# Altium schematic symbol library MANEA_TCAD_PROIECT_Schlib.SchLib: 23 symbols (part 1 of 2)
Pins are listed as number, name and electrical type; pins without a type are passive.

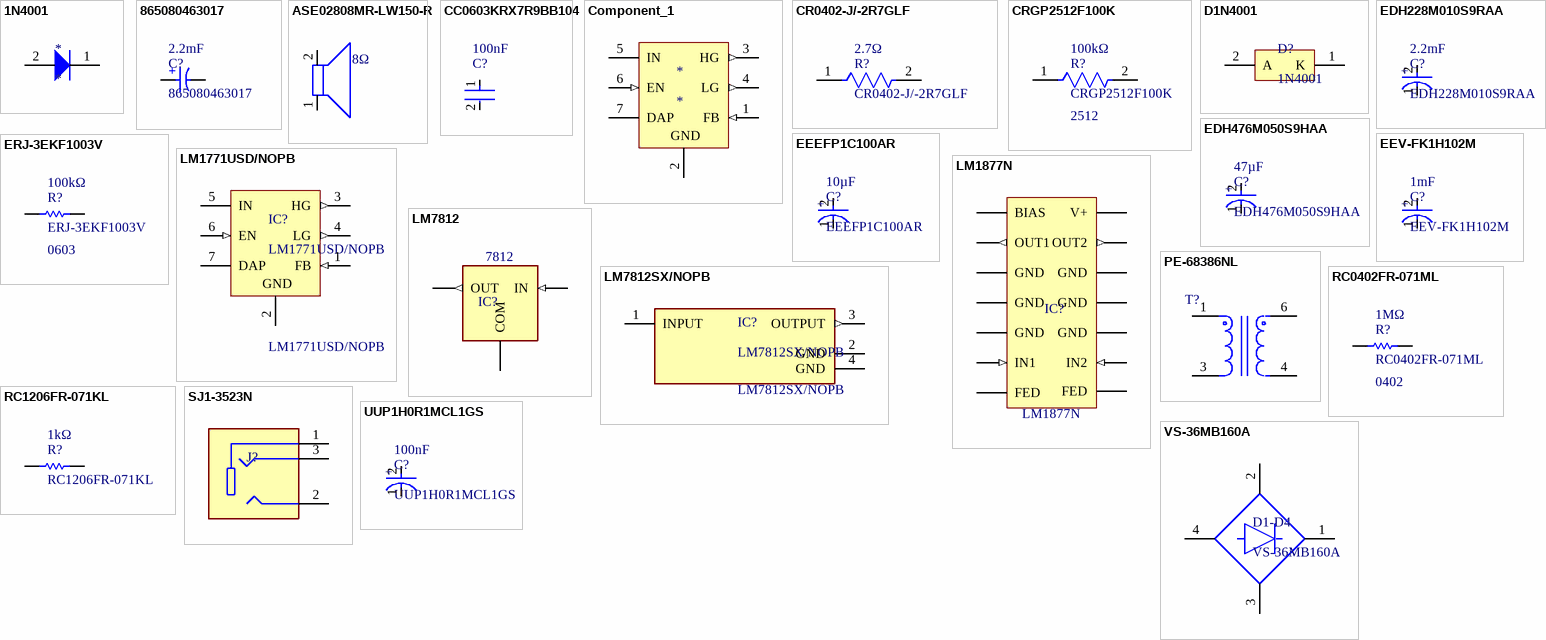
[diagram p0: symbols 1N4001 to VS-36MB160A]

## 1N4001
designator *
footprint ONSC-AXIAL_LEAD-2-59-10_P (AXIAL, 2-Leads, Diameter 2.35mm)
pins: 1 K, 2 A

## 865080463017
designator C?  value 2.2mF
SMD Aluminium Electrolytic Capacitor, WCAP-ASLI Series, 2200 F, 25 V, Radial Can - SMD, 16 mm; Manufacturer: Wurth Elektronik; ESR (Equivalent Series Resistance): 40.2412mΩ; Impedance: 52mΩ; Insulation Resistance: 45.4545kΩ; Leakage Current: 550µA; Life (Hours): 2000hours; Polarity: Polar; Ripple Current: 1.25A; Tolerance: 20%; Voltage Rating: 25V; Supplier: DigiKey; Supplier Part Number: 732-8445-1-ND; Manufacturer Part Number: 865080463017; RoHS: Compliant; Category: Aluminum Electrolytic Capacitors; Stock: 101; Pricing: 1=3.83, 50=3.268 (USD); Case/Package: Radial; Diameter: 16mm; Height: 17mm; Height - Seated (Max): 16.9926mm; Length: 17mm; Max Operating Temperature: 105°C; Min Operating Temperature: -55°C; Mounting Technology: Surface Mount; REACH SVHC: Unknown; Ripple Current (AC): 1.25A; Voltage Rating (DC): 25V; Width: 17.1mm; ComponentLink1URL: https://datasheet.octopart.com:443/865080463017-Wurth-Elektronik-datasheet-168508426.pdf?src-supplier=Wurth+Elektronik; ComponentLink1Description: https://datasheet.octopart.com:443/865080463017-Wurth-Elektronik-datasheet-168508426.pdf?src-supplier=Wurth+Elektronik; ComponentLink2URL: https://datasheet.octopart.com:443/865080463017-W%C3%BCrth-Elektronik-datasheet-37144410.pdf?src-supplier=Newark; ComponentLink2Description: https://datasheet.octopart.com:443/865080463017-W%C3%BCrth-Elektronik-datasheet-37144410.pdf?src-supplier=Newark
footprint WCAP-ASLI_D16H17 (Manea Cap - 2.2mF Aluminium Electrolytic V-Chip SMT Capacitors, 16x17mm)
pins: 1 P, 2 N
text: +

## ASE02808MR-LW150-R
designator SPK?  Impedance: 8Ω  (hidden comment: ASE02808MR-LW150-R)
Speakers & Transducers 28mm SPEAKER w/ENCL 2 W 8 OHM 82 DB; Manufacturer: PUI Audio; Cable Length: 150mm; Max Power Dissipation: 3W; Power Rating: 2W; Self Resonant Frequency: 22Hz; Shape: Rectangular, Square; Supplier: DigiKey; Supplier Part Number: 668-1431-ND; RoHS: Compliant; Category: Speakers; Stock: 2641; Pricing: 1=7.56, 10=5.802, 42=4.95976, 84=4.60714, 126=4.41524, 252=4.10972, 504=3.83006, 1008=3.65106 (USD); Height: 14.8mm; Length: 31mm; Mounting Technology: Flanges; REACH SVHC: Yes; Termination: Wire Leads; Width: 28mm; ComponentLink1URL: https://datasheet.octopart.com:443/ASE02808MR-LW150-R-PUI-Audio-datasheet-128089182.pdf?src-supplier=JRH+Electronics; ComponentLink1Description: https://datasheet.octopart.com:443/ASE02808MR-LW150-R-PUI-Audio-datasheet-128089182.pdf?src-supplier=JRH+Electronics; ComponentLink2URL: https://datasheet.octopart.com:443/ASE02808MR-LW150-R-PUI-Audio-datasheet-128089185.pdf?src-supplier=Sager+Electronics; ComponentLink2Description: https://datasheet.octopart.com:443/ASE02808MR-LW150-R-PUI-Audio-datasheet-128089185.pdf?src-supplier=Sager+Electronics; Manufacturer Part Number: ASE02808MR-LW150-R
footprint Manea_Speaker (36 mm, Round Frame, 2.0 W, 8 Ohm, Neodymium Magnet, Paper Cone, Speaker [CLS0361 - Same Sky])
pins: 1, 2

## CC0603KRX7R9BB104
designator C?, comment value 100nF  (hidden comment: Cap 100nF)
Multilayer Ceramic Capacitor, CC Series, 0.1 - F, - 10%, X7R, 50 V, 0603 [1608 Metric]; Manufacturer: Yageo Group; Manufacturer Part Number: CC0603KRX7R9BB104; Voltage: 50V; Supplier: Farnell; Supplier Part Number: CC0603KRX7R9BB104; RoHS: Compliant; Category: Ceramic Capacitors; Stock: 1047442; Pricing: 10=10, 100=0.06, 500=0.06, 1000=0.05, 2000=0.05, 4000=0.04 (EUR); Case/Package: 0603; Case Code (Imperial): 0603; Case Code (Metric): 1608; China RoHS: Compliant; Country of Origin: Mainland China, Taiwan; Depth: 800µm; Dielectric: X7R; Dielectric Material: Ceramic; Export Control Classification Number (ECCN) Code: EAR99; Halogen Free: Halogen Free; Height: 800µm; Harmonized Tariff Schedule (HTS) Code: 8532.24.00.20; Introduction Date: 2005-08-18; Lead Free: Lead Free; Length: 1.6mm; Lifecycle Status: Production; Material: Ceramic; Max Operating Temperature: 125°C; Min Operating Temperature: -55°C; Mounting Technology: Surface Mount; Pins: 2; Number of Terminals: 2; Radiation Hardening: No; REACH SVHC: Yes; Schedule B: 8532240020, 8532240020|8532240020, 8532240020|8532240020|8532240020, 8532240020|8532240020|8532240020|8532240020; Termination: SMD/SMT; Thickness: 889µm; Tolerance: 10%; Voltage Rating: 50V; Voltage Rating (DC): 50V; Width: 800µm; ComponentLink1URL: https://datasheet.octopart.com:443/CC0603KRX7R9BB104-Yageo-datasheet-177165144.pdf?src-supplier=IHS; ComponentLink1Description: https://datasheet.octopart.com:443/CC0603KRX7R9BB104-Yageo-datasheet-177165144.pdf?src-supplier=IHS; ComponentLink2URL: https://datasheet.octopart.com:443/CC0603KRX7R9BB104-Yageo-datasheet-82288757.pdf?src-supplier=Upverter; ComponentLink2Description: https://datasheet.octopart.com:443/CC0603KRX7R9BB104-Yageo-datasheet-82288757.pdf?src-supplier=Upverter; ComponentLink3URL: https://datasheet.octopart.com:443/CC0603KRX7R9BB104-Yageo-datasheet-68298032.pdf?src-supplier=Upverter; ComponentLink3Description: https://datasheet.octopart.com:443/CC0603KRX7R9BB104-Yageo-datasheet-68298032.pdf?src-supplier=Upverter; ComponentLink4URL: https://datasheet.octopart.com:443/CC0603KRX7R9BB104-Yageo-Group-datasheet-189192896.pdf?src-supplier=Future+Electronics; ComponentLink4Description: https://datasheet.octopart.com:443/CC0603KRX7R9BB104-Yageo-Group-datasheet-189192896.pdf?src-supplier=Future+Electronics; ComponentLink5URL: https://datasheet.octopart.com:443/CC0603KRX7R9BB104-Yageo-datasheet-12526321.pdf?src-supplier=Future+Electronics; ComponentLink5Description: https://datasheet.octopart.com:443/CC0603KRX7R9BB104-Yageo-datasheet-12526321.pdf?src-supplier=Future+Electronics; ComponentLink6URL: https://datasheet.octopart.com:443/CC0603KRX7R9BB104-Yageo-datasheet-166511530.pdf?src-supplier=Future+Electronics; ComponentLink6Description: https://datasheet.octopart.com:443/CC0603KRX7R9BB104-Yageo-datasheet-166511530.pdf?src-supplier=Future+Electronics; ComponentLink7URL: https://datasheet.octopart.com:443/CC0603KRX7R9BB104-Yageo-datasheet-137700082.pdf?src-supplier=Future+Electronics; ComponentLink7Description: https://datasheet.octopart.com:443/CC0603KRX7R9BB104-Yageo-datasheet-137700082.pdf?src-supplier=Future+Electronics; ComponentLink8URL: https://datasheet.octopart.com:443/CC0603KRX7R9BB104-Yageo-datasheet-137700084.pdf?src-supplier=Future+Electronics; ComponentLink8Description: https://datasheet.octopart.com:443/CC0603KRX7R9BB104-Yageo-datasheet-137700084.pdf?src-supplier=Future+Electronics; ComponentLink9URL: https://datasheet.octopart.com:443/CC0603KRX7R9BB104-Yageo-datasheet-27626582.pdf?src-supplier=Future+Electronics; ComponentLink9Description: https://datasheet.octopart.com:443/CC0603KRX7R9BB104-Yageo-datasheet-27626582.pdf?src-supplier=Future+Electronics; ComponentLink10URL: https://datasheet.octopart.com:443/CC0603KRX7R9BB104-Yageo-datasheet-15895757.pdf?src-supplier=Future+Electronics; ComponentLink10Description: https://datasheet.octopart.com:443/CC0603KRX7R9BB104-Yageo-datasheet-15895757.pdf?src-supplier=Future+Electronics; ComponentLink11URL: https://datasheet.octopart.com:443/CC0603KRX7R9BB104-Yageo-datasheet-8324192.pdf?src-supplier=Future+Electronics; ComponentLink11Description: https://datasheet.octopart.com:443/CC0603KRX7R9BB104-Yageo-datasheet-8324192.pdf?src-supplier=Future+Electronics; ComponentLink12URL: https://datasheet.octopart.com/CC0603KRX7R9BB104-Yageo-datasheet-10883670.pdf; ComponentLink12Description: https://datasheet.octopart.com/CC0603KRX7R9BB104-Yageo-datasheet-10883670.pdf; ComponentLink13URL: https://datasheet.octopart.com:443/CC0603KRX7R9BB104-Yageo-datasheet-181968726.pdf?src-supplier=Newark; ComponentLink13Description: https://datasheet.octopart.com:443/CC0603KRX7R9BB104-Yageo-datasheet-181968726.pdf?src-supplier=Newark; ComponentLink14URL: https://datasheet.octopart.com:443/CC0603KRX7R9BB104-Yageo-datasheet-499490.pdf?src-supplier=Newark; ComponentLink14Description: https://datasheet.octopart.com:443/CC0603KRX7R9BB104-Yageo-datasheet-499490.pdf?src-supplier=Newark; ComponentLink15URL: https://datasheet.octopart.com:443/CC0603KRX7R9BB104-Yageo-datasheet-62336348.pdf?src-supplier=Newark; ComponentLink15Description: https://datasheet.octopart.com:443/CC0603KRX7R9BB104-Yageo-datasheet-62336348.pdf?src-supplier=Newark; ComponentLink16URL: https://datasheet.octopart.com:443/CC0603KRX7R9BB104-Yageo-datasheet-147453679.pdf?src-supplier=Newark; ComponentLink16Description: https://datasheet.octopart.com:443/CC0603KRX7R9BB104-Yageo-datasheet-147453679.pdf?src-supplier=Newark; ComponentLink17URL: https://datasheet.octopart.com:443/CC0603KRX7R9BB104-Yageo-datasheet-151948686.pdf?src-supplier=Farnell; ComponentLink17Description: https://datasheet.octopart.com:443/CC0603KRX7R9BB104-Yageo-datasheet-151948686.pdf?src-supplier=Farnell; ComponentLink18URL: https://datasheet.octopart.com:443/CC0603KRX7R9BB104-Yageo-datasheet-500777.pdf?src-supplier=Farnell; ComponentLink18Description: https://datasheet.octopart.com:443/CC0603KRX7R9BB104-Yageo-datasheet-500777.pdf?src-supplier=Farnell; ComponentLink19URL: https://datasheet.octopart.com:443/CC0603KRX7R9BB104-Yageo-datasheet-178019014.pdf?src-supplier=Burklin+Elektronik; ComponentLink19Description: https://datasheet.octopart.com:443/CC0603KRX7R9BB104-Yageo-datasheet-178019014.pdf?src-supplier=Burklin+Elektronik; ComponentLink20URL: https://datasheet.octopart.com:443/CC0603KRX7R9BB104-Yageo-Group-datasheet-165992755.pdf?src-supplier=ODG+(Origin+Data+Global); ComponentLink20Description: https://datasheet.octopart.com:443/CC0603KRX7R9BB104-Yageo-Group-datasheet-165992755.pdf?src-supplier=ODG+(Origin+Data+Global); ComponentLink21URL: https://datasheet.octopart.com:443/CC0603KRX7R9BB104-Yageo-datasheet-140260305.pdf?src-supplier=SOS+electronic; ComponentLink21Description: https://datasheet.octopart.com:443/CC0603KRX7R9BB104-Yageo-datasheet-140260305.pdf?src-supplier=SOS+electronic; ComponentLink22URL: https://datasheet.octopart.com:443/CC0603KRX7R9BB104-Yageo-datasheet-120101875.pdf?src-supplier=Megastar; ComponentLink22Description: https://datasheet.octopart.com:443/CC0603KRX7R9BB104-Yageo-datasheet-120101875.pdf?src-supplier=Megastar; ComponentLink23URL: https://datasheet.octopart.com:443/CC0603KRX7R9BB104-Yageo-datasheet-8701427.pdf?src-supplier=element14; ComponentLink23Description: https://datasheet.octopart.com:443/CC0603KRX7R9BB104-Yageo-datasheet-8701427.pdf?src-supplier=element14; ComponentLink24URL: https://datasheet.octopart.com:443/CC0603KRX7R9BB104-Yageo-datasheet-5301394.pdf?src-supplier=element14; ComponentLink24Description: https://datasheet.octopart.com:443/CC0603KRX7R9BB104-Yageo-datasheet-5301394.pdf?src-supplier=element14; ComponentLink25URL: https://datasheet.octopart.com:443/CC0603KRX7R9BB104-Yageo-datasheet-17600895.pdf?src-supplier=TME; ComponentLink25Description: https://datasheet.octopart.com:443/CC0603KRX7R9BB104-Yageo-datasheet-17600895.pdf?src-supplier=TME; ComponentLink26URL: http://sigma.octopart.com:80/15889575/rohs_statement/Yageo-CC0603KRX7R9BB104.pdf?src-supplier=Compliance+Statements; ComponentLink26Description: http://sigma.octopart.com:80/15889575/rohs_statement/Yageo-CC0603KRX7R9BB104.pdf?src-supplier=Compliance+Statements; ComponentLink27URL: http://sigma.octopart.com:80/conflict_mineral_statement/Yageo-company-3.pdf?src-supplier=Compliance+Statements; ComponentLink27Description: http://sigma.octopart.com:80/conflict_mineral_statement/Yageo-company-3.pdf?src-supplier=Compliance+Statements
footprint FP-CC0603-DA-MFG (Manea - Cap 100nF Ceramic)
pins: 1, 2

## Component_1
designator *
pins: 1 FB (in), 2 GND (power), 3 HG (out), 4 LG (out), 5 IN (power), 6 EN (in), 7 DAP (power)

## CR0402-J/-2R7GLF
designator R?  value 2.7Ω
CR0402 FIXED RESISTOR 0402 (1005Metric) Chip Resistor ±5% -250/ +500ppm/C 2.7Ohm 0.063W 1/16W; Manufacturer: Bourns; Max Power Dissipation: 63mW; Power Rating: 62.5mW; Temperature Coefficient: 500ppm/°C; Voltage Rating: 50V; Supplier: DigiKey; Supplier Part Number: CR0402-J/-2R7GLFDKR-ND; Manufacturer Part Number: CR0402-J/-2R7GLF; RoHS: Compliant; Category: Chip SMD Resistors; Pricing: 1=0.1, 10=0.02, 25=0.0144, 50=0.0114, 100=0.0091, 250=0.00696, 500=0.00574, 1000=0.0048, 5000=0.00333 (USD); Case/Package: 0402; Case Code (Imperial): 0402; Case Code (Metric): 1005; China RoHS: Non-Compliant; Composition: Thick Film; Contact Plating: Tin; Country of Origin: Taiwan; Depth: 500µm; Export Control Classification Number (ECCN) Code: EAR99; Height: 320µm; Harmonized Tariff Schedule (HTS) Code: 8533.21.00.30; Introduction Date: 2003-04-07; Length: 1mm; Lifecycle Status: Production; Max Operating Temperature: 155°C; Military Standard: Not; Min Operating Temperature: -55°C; Mounting Technology: Surface Mount; Number of Terminals: 2; Power Dissipation: 63mW; Radiation Hardening: No; REACH SVHC: Yes; Termination: SMD/SMT; Tolerance: 5%; Width: 500µm; Working Voltage: 50V; ComponentLink1URL: https://datasheet.octopart.com:443/CR0402-J--2R7GLF-Bourns-datasheet-159578630.pdf?src-supplier=IHS; ComponentLink1Description: https://datasheet.octopart.com:443/CR0402-J--2R7GLF-Bourns-datasheet-159578630.pdf?src-supplier=IHS; ComponentLink2URL: https://datasheet.octopart.com:443/CR0402-J--2R7GLF-Bourns-datasheet-181955239.pdf?src-supplier=IHS; ComponentLink2Description: https://datasheet.octopart.com:443/CR0402-J--2R7GLF-Bourns-datasheet-181955239.pdf?src-supplier=IHS; ComponentLink3URL: https://datasheet.octopart.com:443/CR0402-J--2R7GLF-Bourns-datasheet-68301632.pdf?src-supplier=Electro+Sonic; ComponentLink3Description: https://datasheet.octopart.com:443/CR0402-J--2R7GLF-Bourns-datasheet-68301632.pdf?src-supplier=Electro+Sonic; ComponentLink4URL: https://datasheet.octopart.com/CR0402-J/-2R7GLF-Bourns-datasheet-8723995.pdf; ComponentLink4Description: https://datasheet.octopart.com/CR0402-J/-2R7GLF-Bourns-datasheet-8723995.pdf; ComponentLink5URL: http://sigma.octopart.com:80/conflict_mineral_statement/Bourns-company-36.pdf?src-supplier=Compliance+Statements; ComponentLink5Description: http://sigma.octopart.com:80/conflict_mineral_statement/Bourns-company-36.pdf?src-supplier=Compliance+Statements
footprint FP-CR0402-MFG (Manea Resis - 2.7Ohm (mid - short))
footprint FP-CR0402-IPC_C (Manea Resis - 2.7Ohm (short))
footprint FP-CR0402-IPC_B (Manea Resis - 2.7Ohm (mid))
footprint FP-CR0402-IPC_A (Manea Resis - 2.7Ohm (long))
pins: 1, 2

## CRGP2512F100K
designator R?  value 100kΩ  Case/Package: 2512
Res Thick Film 2512 100K Ohm 1% 2W ±100ppm/°C Pad SMD T/R Automotive AEC-Q200; Manufacturer: TE Connectivity; Manufacturer Lifecycle Status: ACTIVE; Operating Supply Voltage: 500V; Supplier: Avnet; Supplier Part Number: 4-2176331-9; Manufacturer Part Number: CRGP2512F100K; RoHS: Compliant; Category: Chip SMD Resistors; Stock: 4000; Pricing: 4000=0.11838, 80000=0.11064, 160000=0.10311, 400000=0.09689, 800000=0.09638 (USD); Ambient Temperature Range High: 70°C; China RoHS: Compliant; Composition: Thick Film; Export Control Classification Number (ECCN) Code: EAR99; Height: 550µm; Harmonized Tariff Schedule (HTS) Code: 8533.21.00.30; Introduction Date: 2018-03-13; Length: 6.35mm; Lifecycle Status: Production; Max Operating Temperature: 155°C; Min Operating Temperature: -55°C; Mounting Technology: Surface Mount; Number of Terminals: 2; Packaging: Cut Tape; Power Dissipation: 2W; Power Rating: 2W; REACH SVHC: Yes; Temperature Coefficient: 100ppm/°C; Tolerance: 1%; Voltage Rating: 500V; Voltage Rating (DC): 500V; Width: 3.2mm; Working Voltage: 500V; ComponentLink1URL: https://datasheet.octopart.com:443/CRGP2512F100K-TE-Connectivity-datasheet-156004650.pdf?src-supplier=Future+Electronics; ComponentLink1Description: https://datasheet.octopart.com:443/CRGP2512F100K-TE-Connectivity-datasheet-156004650.pdf?src-supplier=Future+Electronics; ComponentLink2URL: https://datasheet.octopart.com:443/CRGP2512F100K-TE-Connectivity-datasheet-114718804.pdf?src-supplier=JRH+Electronics; ComponentLink2Description: https://datasheet.octopart.com:443/CRGP2512F100K-TE-Connectivity-datasheet-114718804.pdf?src-supplier=JRH+Electronics; ComponentLink3URL: https://datasheet.octopart.com:443/CRGP2512F100K-TE-Connectivity-datasheet-138898427.pdf?src-supplier=Upverter; ComponentLink3Description: https://datasheet.octopart.com:443/CRGP2512F100K-TE-Connectivity-datasheet-138898427.pdf?src-supplier=Upverter; ComponentLink4URL: https://sigma.octopart.com:443/114728873/technical_drawing/TE-Connectivity-CRGP2512F100K.pdf?src-supplier=TE+Connectivity; ComponentLink4Description: https://sigma.octopart.com:443/114728873/technical_drawing/TE-Connectivity-CRGP2512F100K.pdf?src-supplier=TE+Connectivity; ComponentLink5URL: https://datasheet.octopart.com:443/4-2176331-9-TE-Connectivity---AMP-datasheet-184935180.pdf?src-supplier=Master+Electronics; ComponentLink5Description: https://datasheet.octopart.com:443/4-2176331-9-TE-Connectivity---AMP-datasheet-184935180.pdf?src-supplier=Master+Electronics; ComponentLink6URL: https://datasheet.octopart.com:443/4-2176331-9-TE-Connectivity-datasheet-176339768.pdf?src-supplier=Sager+Electronics; ComponentLink6Description: https://datasheet.octopart.com:443/4-2176331-9-TE-Connectivity-datasheet-176339768.pdf?src-supplier=Sager+Electronics
footprint FP-CRGP2512-IPC_A (Manea Resis - 100kΩ (long))
footprint FP-CRGP2512-IPC_B (Manea Resis - 100kΩ (mid))
footprint FP-CRGP2512-IPC_C (Manea Resis - 100kΩ (short))
pins: 1, 2

## D1N4001
designator D?, comment 1N4001
Rectifier Diode Switching 50V 1A 2-Pin DO-41 Box / DIODE GEN PURP 50V 1A DO41
footprint ONSC-AXIAL_LEAD-2-59-10_P (AXIAL, 2-Leads, Diameter 2.35mm)
pins: 1 K, 2 A

## EDH228M010S9RAA
designator C?  value 2.2mF
Aluminum Electrolytic Capacitor, Polarized, Aluminum (wet), 10V, 20% +Tol, 20% -Tol, 2200uF, Surface Mount, 5050; Manufacturer: Yageo Group; Leakage Current: 220µA; Ripple Current: 680mA; Supplier: DigiKey; Supplier Part Number: EDH228M010S9RAA-ND; Manufacturer Part Number: EDH228M010S9RAA; RoHS: Compliant; Category: Aluminum Electrolytic Capacitors; Pricing: 3000=0.87027 (USD); Diameter: 12.5mm; Height: 13.5mm; Length: 12.8mm; Lifecycle Status: Production; Max Operating Temperature: 105°C; Min Operating Temperature: -40°C; Mounting Technology: Surface Mount; Number of Terminals: 2; REACH SVHC: Yes; Voltage Rating (DC): 10V; Width: 12.8mm; ComponentLink1URL: https://datasheet.octopart.com:443/EDH228M010S9RAA-KEMET-datasheet-182055805.pdf?src-supplier=IHS; ComponentLink1Description: https://datasheet.octopart.com:443/EDH228M010S9RAA-KEMET-datasheet-182055805.pdf?src-supplier=IHS; ComponentLink2URL: https://datasheet.octopart.com:443/EDH228M010S9RAA-KEMET-datasheet-188904359.pdf?src-supplier=TME; ComponentLink2Description: https://datasheet.octopart.com:443/EDH228M010S9RAA-KEMET-datasheet-188904359.pdf?src-supplier=TME
footprint FP-EDH476M050S9HAA-IPC_A (Manea Cap - 47μF (small))
footprint FP-EDH476M050S9HAA-IPC_B (Manea Cap - 47μF (medium))
footprint FP-EDH476M050S9HAA-IPC_C (Manea Cap - 47μF (large))
pins: 1 C, 2 A
text: +

## EDH476M050S9HAA
designator C?  value 47µF
Radial Can - SMD ALUMINUM ELECTROLYTIC CAPACITOR EDH 50V 47muF ±20% 0.248Dia 6.30mm; Manufacturer: Yageo Group; Dissipation Factor: 12%; Leakage Current: 23.5µA; Life (Hours): 2000hours; Ripple Current: 110mA; Supplier: DigiKey; Supplier Part Number: 399-EDH476M050S9HAACT-ND; Manufacturer Part Number: EDH476M050S9HAA; RoHS: Compliant; Category: Aluminum Electrolytic Capacitors; Pricing: 1=0.48, 10=0.298, 50=0.2202, 100=0.1954, 500=0.1527 (USD); Diameter: 6.3mm; Export Control Classification Number (ECCN) Code: EAR99; Height: 7.7mm; Harmonized Tariff Schedule (HTS) Code: 8532.22.00.20; Introduction Date: 2016-12-02; Length: 6.6mm; Lifecycle Status: Production; Max Operating Temperature: 105°C; Min Operating Temperature: -40°C; Mounting Technology: Surface Mount; Number of Terminals: 2; REACH SVHC: Yes; Tolerance: 20%; Voltage Rating: 50V; Voltage Rating (DC): 50V; Width: 6.6mm; ComponentLink1URL: https://datasheet.octopart.com:443/EDH476M050S9HAA-KEMET-datasheet-182055805.pdf?src-supplier=IHS; ComponentLink1Description: https://datasheet.octopart.com:443/EDH476M050S9HAA-KEMET-datasheet-182055805.pdf?src-supplier=IHS; ComponentLink2URL: https://datasheet.octopart.com:443/EDH476M050S9HAA-KEMET-datasheet-164311313.pdf?src-supplier=Upverter; ComponentLink2Description: https://datasheet.octopart.com:443/EDH476M050S9HAA-KEMET-datasheet-164311313.pdf?src-supplier=Upverter; ComponentLink3URL: https://datasheet.octopart.com:443/EDH476M050S9HAA-KEMET-datasheet-182000736.pdf?src-supplier=Farnell; ComponentLink3Description: https://datasheet.octopart.com:443/EDH476M050S9HAA-KEMET-datasheet-182000736.pdf?src-supplier=Farnell; ComponentLink4URL: https://datasheet.octopart.com:443/EDH476M050S9HAA-KEMET-datasheet-182000735.pdf?src-supplier=Farnell; ComponentLink4Description: https://datasheet.octopart.com:443/EDH476M050S9HAA-KEMET-datasheet-182000735.pdf?src-supplier=Farnell; ComponentLink5URL: https://datasheet.octopart.com:443/EDH476M050S9HAA-KEMET-datasheet-176335142.pdf?src-supplier=Newark; ComponentLink5Description: https://datasheet.octopart.com:443/EDH476M050S9HAA-KEMET-datasheet-176335142.pdf?src-supplier=Newark; ComponentLink6URL: https://datasheet.octopart.com:443/EDH476M050S9HAA-KEMET-datasheet-188904359.pdf?src-supplier=TME; ComponentLink6Description: https://datasheet.octopart.com:443/EDH476M050S9HAA-KEMET-datasheet-188904359.pdf?src-supplier=TME; Stock: 14614
footprint FP-EDH476M050S9HAA-IPC_A (Manea Cap - 47uF (small))
footprint FP-EDH476M050S9HAA-IPC_B (Manea Cap - 47uF (medium))
footprint FP-EDH476M050S9HAA-IPC_C (Manea Cap - 47uF (large))
pins: 1 C, 2 A
text: +

## EEEFP1C100AR
designator C?  value 10µF
Capacitor Aluminum 10uF 16VDC 20% 4 X 5.8mm SMD 0.85 Ohm 160mA 2000 hr Embossed T/R; Manufacturer: Panasonic; Manufacturer Lifecycle Status: ACTIVE; Part Series: FP (High temp. reflow); Dissipation Factor: 16%; ESR (Equivalent Series Resistance): 850mΩ; Leakage Current: 3µA; Life (Hours): 2000hours; Material: Aluminium; Voltage: 16V; Supplier: Farnell; Supplier Part Number: EEEFP1C100AR; Manufacturer Part Number: EEEFP1C100AR; RoHS: Compliant; Category: Aluminum Electrolytic Capacitors; Stock: 40000; Pricing: 2000=2000 (EUR); Case/Package: Radial; Contact Plating: Tin; Country of Origin: Japan, Malaysia; Diameter: 4mm; Export Control Classification Number (ECCN) Code: EAR99; Features: High Temperature; Height: 5.8mm; Height - Seated (Max): 5.7912mm; Harmonized Tariff Schedule (HTS) Code: 8532.22.00.20; Introduction Date: 2008-03-04; Lead Free: Lead Free; Lead Pitch: 1mm; Length: 5.8mm; Lifecycle Status: Production; Max Operating Temperature: 105°C; Min Operating Temperature: -55°C; Mounting Technology: Surface Mount; Pins: 2; Number of Terminals: 2; Packaging: Cut Tape; Radiation Hardening: No; REACH SVHC: Yes; Ripple Current: 160mA; Ripple Current (AC): 160mA; Schedule B: 8532220020, 8532220020|8532220020, 8532220020|8532220020|8532220020, 8532220020|8532220020|8532220020|8532220020; Termination: SMD/SMT; Tolerance: 20%; Voltage Rating: 16V; Voltage Rating (DC): 16V; Width: 4.3mm; ComponentLink1URL: https://datasheet.octopart.com:443/EEEFP1C100AR-Panasonic-datasheet-182100943.pdf?src-supplier=IHS; ComponentLink1Description: https://datasheet.octopart.com:443/EEEFP1C100AR-Panasonic-datasheet-182100943.pdf?src-supplier=IHS; ComponentLink2URL: https://datasheet.octopart.com:443/EEEFP1C100AR-Panasonic-datasheet-66433925.pdf?src-supplier=Future+Electronics; ComponentLink2Description: https://datasheet.octopart.com:443/EEEFP1C100AR-Panasonic-datasheet-66433925.pdf?src-supplier=Future+Electronics; ComponentLink3URL: https://datasheet.octopart.com:443/EEEFP1C100AR-Panasonic-datasheet-5402830.pdf?src-supplier=Future+Electronics; ComponentLink3Description: https://datasheet.octopart.com:443/EEEFP1C100AR-Panasonic-datasheet-5402830.pdf?src-supplier=Future+Electronics; ComponentLink4URL: https://datasheet.octopart.com:443/EEEFP1C100AR-Panasonic-datasheet-10533123.pdf?src-supplier=Future+Electronics; ComponentLink4Description: https://datasheet.octopart.com:443/EEEFP1C100AR-Panasonic-datasheet-10533123.pdf?src-supplier=Future+Electronics; ComponentLink5URL: https://datasheet.octopart.com:443/EEEFP1C100AR-Panasonic-datasheet-8835375.pdf?src-supplier=Future+Electronics; ComponentLink5Description: https://datasheet.octopart.com:443/EEEFP1C100AR-Panasonic-datasheet-8835375.pdf?src-supplier=Future+Electronics; ComponentLink6URL: https://datasheet.octopart.com:443/EEEFP1C100AR-Panasonic-datasheet-13268972.pdf?src-supplier=Electro+Sonic; ComponentLink6Description: https://datasheet.octopart.com:443/EEEFP1C100AR-Panasonic-datasheet-13268972.pdf?src-supplier=Electro+Sonic; ComponentLink7URL: https://datasheet.octopart.com:443/EEEFP1C100AR-Panasonic-datasheet-43765692.pdf?src-supplier=Electro+Sonic; ComponentLink7Description: https://datasheet.octopart.com:443/EEEFP1C100AR-Panasonic-datasheet-43765692.pdf?src-supplier=Electro+Sonic; ComponentLink8URL: https://datasheet.octopart.com:443/EEE-FP1C100AR-Panasonic-datasheet-27908621.pdf?src-supplier=Electro+Sonic; ComponentLink8Description: https://datasheet.octopart.com:443/EEE-FP1C100AR-Panasonic-datasheet-27908621.pdf?src-supplier=Electro+Sonic; ComponentLink9URL: https://datasheet.octopart.com:443/EEE-FP1C100AR-Panasonic-datasheet-154766120.pdf?src-supplier=JRH+Electronics; ComponentLink9Description: https://datasheet.octopart.com:443/EEE-FP1C100AR-Panasonic-datasheet-154766120.pdf?src-supplier=JRH+Electronics; ComponentLink10URL: https://datasheet.octopart.com:443/EEEFP1C100AR-Panasonic-datasheet-178895083.pdf?src-supplier=Burklin+Elektronik; ComponentLink10Description: https://datasheet.octopart.com:443/EEEFP1C100AR-Panasonic-datasheet-178895083.pdf?src-supplier=Burklin+Elektronik; ComponentLink11URL: https://sigma.octopart.com:443/150570760/technical_drawing/Panasonic-EEEFP1C100AR.pdf?src-supplier=Panasonic+SCT; ComponentLink11Description: https://sigma.octopart.com:443/150570760/technical_drawing/Panasonic-EEEFP1C100AR.pdf?src-supplier=Panasonic+SCT; ComponentLink12URL: https://datasheet.octopart.com:443/EEEFP1C100AR-Panasonic-datasheet-5301681.pdf?src-supplier=Farnell; ComponentLink12Description: https://datasheet.octopart.com:443/EEEFP1C100AR-Panasonic-datasheet-5301681.pdf?src-supplier=Farnell
footprint FP-FPB-MFG (Manea Cap - 10uF)
pins: 1 C, 2 A
text: +

## EEV-FK1H102M
designator C?  value 1mF
Radial Can - SMD ALUMINUM ELECTROLYTIC CAPACITOR FK 50V 1000muF 卤20% 0.630Dia 16.00mm; Manufacturer: Panasonic; Manufacturer Lifecycle Status: ACTIVE; Dielectric Material: Aluminium; Dissipation Factor: 10%; ESR (Equivalent Series Resistance): 73mΩ; Leakage Current: 500µA; Life (Hours): 2000hours; Ripple Current: 1.61A; Tolerance: 20%; Supplier: DigiKey; Supplier Part Number: PCE3477CT-ND; Manufacturer Part Number: EEV-FK1H102M; RoHS: Compliant; Category: Aluminum Electrolytic Capacitors; Pricing: 1=2.17, 10=1.427, 50=1.1178 (USD); Contact Plating: Tin; Country of Origin: Japan, Malaysia; Diameter: 16mm; Export Control Classification Number (ECCN) Code: EAR99; Height: 16.5mm; Height - Seated (Max): 16.51mm; Impedance: 73mΩ; Introduction Date: 2001-12-07; Lead Free: Lead Free; Length: 16.5mm; Lifecycle Status: Production; Material: Aluminium; Max Operating Temperature: 105°C; Min Operating Temperature: -55°C; Mounting Technology: Surface Mount; Pins: 2; Number of Terminals: 2; Packaging: Cut Tape; Radiation Hardening: No; REACH SVHC: Yes; Ripple Current (AC): 1.61A; Schedule B: 8532220020; Part Series: FK; Termination: SMD/SMT; Voltage: 50V; Voltage Rating: 50V; Voltage Rating (AC): 50V; Voltage Rating (DC): 50V; Width: 17mm; ComponentLink1URL: https://datasheet.octopart.com:443/EEV-FK1H102M-Panasonic-datasheet-138897395.pdf?src-supplier=Upverter; ComponentLink1Description: https://datasheet.octopart.com:443/EEV-FK1H102M-Panasonic-datasheet-138897395.pdf?src-supplier=Upverter; ComponentLink2URL: https://datasheet.octopart.com:443/EEV-FK1H102M-Panasonic-datasheet-62287436.pdf?src-supplier=Panasonic; ComponentLink2Description: https://datasheet.octopart.com:443/EEV-FK1H102M-Panasonic-datasheet-62287436.pdf?src-supplier=Panasonic; ComponentLink3URL: https://datasheet.octopart.com:443/EEV-FK1H102M-Panasonic-datasheet-13266987.pdf?src-supplier=Newark; ComponentLink3Description: https://datasheet.octopart.com:443/EEV-FK1H102M-Panasonic-datasheet-13266987.pdf?src-supplier=Newark; ComponentLink4URL: https://datasheet.octopart.com:443/EEV-FK1H102M-Panasonic-datasheet-61627622.pdf?src-supplier=Newark; ComponentLink4Description: https://datasheet.octopart.com:443/EEV-FK1H102M-Panasonic-datasheet-61627622.pdf?src-supplier=Newark; ComponentLink5URL: https://datasheet.octopart.com:443/EEV-FK1H102M-Panasonic-datasheet-8854493.pdf?src-supplier=Farnell; ComponentLink5Description: https://datasheet.octopart.com:443/EEV-FK1H102M-Panasonic-datasheet-8854493.pdf?src-supplier=Farnell; ComponentLink6URL: https://datasheet.octopart.com:443/EEV-FK1H102M-Panasonic-datasheet-8711795.pdf?src-supplier=Farnell; ComponentLink6Description: https://datasheet.octopart.com:443/EEV-FK1H102M-Panasonic-datasheet-8711795.pdf?src-supplier=Farnell; ComponentLink7URL: https://datasheet.octopart.com:443/EEV-FK1H102M-Panasonic-datasheet-5313801.pdf?src-supplier=Farnell; ComponentLink7Description: https://datasheet.octopart.com:443/EEV-FK1H102M-Panasonic-datasheet-5313801.pdf?src-supplier=Farnell; ComponentLink8URL: https://datasheet.octopart.com:443/EEVFK1H102M-Panasonic-datasheet-7555708.pdf?src-supplier=Farnell; ComponentLink8Description: https://datasheet.octopart.com:443/EEVFK1H102M-Panasonic-datasheet-7555708.pdf?src-supplier=Farnell; ComponentLink9URL: https://datasheet.octopart.com:443/EEVFK1H102M-Panasonic-datasheet-5318435.pdf?src-supplier=Farnell; ComponentLink9Description: https://datasheet.octopart.com:443/EEVFK1H102M-Panasonic-datasheet-5318435.pdf?src-supplier=Farnell; ComponentLink10URL: https://datasheet.octopart.com:443/EEVFK1H102M-Panasonic-datasheet-5316599.pdf?src-supplier=Farnell; ComponentLink10Description: https://datasheet.octopart.com:443/EEVFK1H102M-Panasonic-datasheet-5316599.pdf?src-supplier=Farnell; ComponentLink11URL: https://datasheet.octopart.com:443/EEVFK1H102M-Panasonic-datasheet-5390910.pdf?src-supplier=Farnell; ComponentLink11Description: https://datasheet.octopart.com:443/EEVFK1H102M-Panasonic-datasheet-5390910.pdf?src-supplier=Farnell; ComponentLink12URL: https://datasheet.octopart.com:443/EEVFK1H102M-Panasonic-datasheet-7550061.pdf?src-supplier=Farnell; ComponentLink12Description: https://datasheet.octopart.com:443/EEVFK1H102M-Panasonic-datasheet-7550061.pdf?src-supplier=Farnell; ComponentLink13URL: https://datasheet.octopart.com:443/EEVFK1H102M-Panasonic-datasheet-1770.pdf?src-supplier=Farnell; ComponentLink13Description: https://datasheet.octopart.com:443/EEVFK1H102M-Panasonic-datasheet-1770.pdf?src-supplier=Farnell; ComponentLink14URL: https://datasheet.octopart.com:443/EEVFK1H102M-Panasonic-datasheet-1290.pdf?src-supplier=Farnell; ComponentLink14Description: https://datasheet.octopart.com:443/EEVFK1H102M-Panasonic-datasheet-1290.pdf?src-supplier=Farnell; ComponentLink15URL: https://datasheet.octopart.com:443/EEVFK1H102M-Panasonic-datasheet-2601.pdf?src-supplier=Farnell; ComponentLink15Description: https://datasheet.octopart.com:443/EEVFK1H102M-Panasonic-datasheet-2601.pdf?src-supplier=Farnell; ComponentLink16URL: https://datasheet.octopart.com:443/EEVFK1H102M-Panasonic-datasheet-122249.pdf?src-supplier=Farnell; ComponentLink16Description: https://datasheet.octopart.com:443/EEVFK1H102M-Panasonic-datasheet-122249.pdf?src-supplier=Farnell; ComponentLink17URL: https://datasheet.octopart.com:443/EEVFK1H102M-Panasonic-datasheet-4056.pdf?src-supplier=Farnell; ComponentLink17Description: https://datasheet.octopart.com:443/EEVFK1H102M-Panasonic-datasheet-4056.pdf?src-supplier=Farnell; ComponentLink18URL: https://datasheet.octopart.com:443/EEV-FK1H102M-Panasonic-datasheet-8161.pdf?src-supplier=element14; ComponentLink18Description: https://datasheet.octopart.com:443/EEV-FK1H102M-Panasonic-datasheet-8161.pdf?src-supplier=element14; ComponentLink19URL: https://datasheet.octopart.com:443/EEV-FK1H102M-Panasonic-datasheet-150469824.pdf?src-supplier=Master+Electronics; ComponentLink19Description: https://datasheet.octopart.com:443/EEV-FK1H102M-Panasonic-datasheet-150469824.pdf?src-supplier=Master+Electronics; ComponentLink20URL: https://sigma.octopart.com:443/150570760/technical_drawing/Panasonic-EEVFK1H102M.pdf?src-supplier=Panasonic+SCT; ComponentLink20Description: https://sigma.octopart.com:443/150570760/technical_drawing/Panasonic-EEVFK1H102M.pdf?src-supplier=Panasonic+SCT; ComponentLink21URL: https://datasheet.octopart.com:443/EEVFK1H102M-Panasonic-datasheet-136531309.pdf?src-supplier=TME; ComponentLink21Description: https://datasheet.octopart.com:443/EEVFK1H102M-Panasonic-datasheet-136531309.pdf?src-supplier=TME; ComponentLink22URL: https://datasheet.octopart.com:443/EEVFK1H102M-Panasonic-datasheet-11546739.pdf?src-supplier=TME; ComponentLink22Description: https://datasheet.octopart.com:443/EEVFK1H102M-Panasonic-datasheet-11546739.pdf?src-supplier=TME; ComponentLink23URL: https://datasheet.octopart.com:443/EEVFK1H102M-Panasonic-datasheet-5315649.pdf?src-supplier=Verical; ComponentLink23Description: https://datasheet.octopart.com:443/EEVFK1H102M-Panasonic-datasheet-5315649.pdf?src-supplier=Verical; ComponentLink24URL: https://datasheet.octopart.com:443/EEVFK1H102M-Panasonic-datasheet-13275731.pdf?src-supplier=Verical; ComponentLink24Description: https://datasheet.octopart.com:443/EEVFK1H102M-Panasonic-datasheet-13275731.pdf?src-supplier=Verical; ComponentLink25URL: https://datasheet.octopart.com:443/EEV-FK1H102M-Panasonic-datasheet-48.pdf?src-supplier=DigiKey; ComponentLink25Description: https://datasheet.octopart.com:443/EEV-FK1H102M-Panasonic-datasheet-48.pdf?src-supplier=DigiKey; ComponentLink26URL: https://datasheet.octopart.com:443/EEV-FK1H102M-Panasonic-datasheet-122143.pdf?src-supplier=Electro+Sonic; ComponentLink26Description: https://datasheet.octopart.com:443/EEV-FK1H102M-Panasonic-datasheet-122143.pdf?src-supplier=Electro+Sonic; Case/Package: Radial; Stock: 6943
footprint FP-FK-J16-MFG (Manea Cap - 1mF)
pins: 1 C, 2 A
text: +

## ERJ-3EKF1003V
designator R?  value 100kΩ  Case/Package: 0603
Resistor Thick Film 0603 100K Ohm 1% 1/10W 100ppm/C Molded SMD Punched Carrier T/R; Manufacturer: Panasonic; Manufacturer Lifecycle Status: ACTIVE; Part Series: Precision Thick Film Chip Resistors; Max Power Dissipation: 100mW; Temperature Coefficient: 100ppm/°C; Voltage Rating: 75V; Supplier: Farnell; Supplier Part Number: ERJ3EKF1003V; Manufacturer Part Number: ERJ-3EKF1003V; RoHS: Compliant; Category: Chip SMD Resistors; Stock: 163613; Pricing: 10=10, 100=0.08, 500=0.07, 1000=0.06, 2500=0.06 (EUR); Case Code (Imperial): 0603; China RoHS: Non-Compliant; Composition: Thick Film; Contact Plating: Tin; Depth: 800µm; Features: Automotive AEC-Q200; Height: 450µm; Lead Free: Lead Free; Length: 1.6mm; Lifecycle Status: Production; Max Operating Temperature: 155°C; Military Standard: Not; Min Operating Temperature: -55°C; Mounting Technology: Surface Mount; Pins: 2; Number of Terminals: 2; Number of Terminations: 2; Packaging: Cut Tape; Power Dissipation: 100mW; Power Rating: 100mW; Radiation Hardening: No; REACH SVHC: Yes; Schedule B: 8533210045, 8533210045|8533210045|8533210045|8533210045|8533210045|8533210045|8533210045|8533210045|8533210045|8533210045|8533210045|8533210045|8533210045|8533210045|8533210045|8533210045|8533210045|8533210045|8533210045|8533210045|8533210045|8533210045|8533210045|85; Termination: SMD/SMT; Tolerance: 1%; Voltage Rating (DC): 75V; Weight: 2.012816mg; Width: 800µm; Working Voltage: 75V; ComponentLink1URL: https://datasheet.octopart.com:443/ERJ3EKF1003V-Panasonic-datasheet-182147282.pdf?src-supplier=IHS; ComponentLink1Description: https://datasheet.octopart.com:443/ERJ3EKF1003V-Panasonic-datasheet-182147282.pdf?src-supplier=IHS; ComponentLink2URL: https://datasheet.octopart.com:443/ERJ-3EKF1003V-Panasonic-datasheet-82288794.pdf?src-supplier=Panasonic; ComponentLink2Description: https://datasheet.octopart.com:443/ERJ-3EKF1003V-Panasonic-datasheet-82288794.pdf?src-supplier=Panasonic; ComponentLink3URL: https://datasheet.octopart.com:443/ERJ-3EKF1003V-Panasonic-datasheet-13266541.pdf?src-supplier=Newark; ComponentLink3Description: https://datasheet.octopart.com:443/ERJ-3EKF1003V-Panasonic-datasheet-13266541.pdf?src-supplier=Newark; ComponentLink4URL: https://datasheet.octopart.com:443/ERJ-3EKF1003V-Panasonic-datasheet-5313456.pdf?src-supplier=Newark; ComponentLink4Description: https://datasheet.octopart.com:443/ERJ-3EKF1003V-Panasonic-datasheet-5313456.pdf?src-supplier=Newark; ComponentLink5URL: https://datasheet.octopart.com:443/ERJ-3EKF1003V-Panasonic-datasheet-48891056.pdf?src-supplier=Newark; ComponentLink5Description: https://datasheet.octopart.com:443/ERJ-3EKF1003V-Panasonic-datasheet-48891056.pdf?src-supplier=Newark; ComponentLink6URL: https://datasheet.octopart.com:443/ERJ-3EKF1003V-Panasonic-datasheet-168681906.pdf?src-supplier=Newark; ComponentLink6Description: https://datasheet.octopart.com:443/ERJ-3EKF1003V-Panasonic-datasheet-168681906.pdf?src-supplier=Newark; ComponentLink7URL: https://datasheet.octopart.com:443/ERJ-3EKF1003V-Panasonic-datasheet-136608610.pdf?src-supplier=Burklin+Elektronik; ComponentLink7Description: https://datasheet.octopart.com:443/ERJ-3EKF1003V-Panasonic-datasheet-136608610.pdf?src-supplier=Burklin+Elektronik; ComponentLink8URL: https://datasheet.octopart.com:443/ERJ-3EKF1003V-Panasonic-datasheet-10025800.pdf?src-supplier=Future+Electronics; ComponentLink8Description: https://datasheet.octopart.com:443/ERJ-3EKF1003V-Panasonic-datasheet-10025800.pdf?src-supplier=Future+Electronics; ComponentLink9URL: https://datasheet.octopart.com:443/ERJ-3EKF1003V-Panasonic-datasheet-8853621.pdf?src-supplier=Future+Electronics; ComponentLink9Description: https://datasheet.octopart.com:443/ERJ-3EKF1003V-Panasonic-datasheet-8853621.pdf?src-supplier=Future+Electronics; ComponentLink10URL: https://datasheet.octopart.com:443/ERJ-3EKF1003V-Panasonic-datasheet-154766169.pdf?src-supplier=Master+Electronics; ComponentLink10Description: https://datasheet.octopart.com:443/ERJ-3EKF1003V-Panasonic-datasheet-154766169.pdf?src-supplier=Master+Electronics; ComponentLink11URL: https://datasheet.octopart.com:443/ERJ3EKF1003V-Panasonic-datasheet-138819429.pdf?src-supplier=TME; ComponentLink11Description: https://datasheet.octopart.com:443/ERJ3EKF1003V-Panasonic-datasheet-138819429.pdf?src-supplier=TME; ComponentLink12URL: https://datasheet.octopart.com/ERJ-3EKF1003V-Panasonic-datasheet-78375410.pdf; ComponentLink12Description: https://datasheet.octopart.com/ERJ-3EKF1003V-Panasonic-datasheet-78375410.pdf; ComponentLink13URL: https://datasheet.octopart.com/Precision-Thick-Film-Chip-Resistors-Panasonic-datasheet-family-106.pdf; ComponentLink13Description: https://datasheet.octopart.com/Precision-Thick-Film-Chip-Resistors-Panasonic-datasheet-family-106.pdf; ComponentLink14URL: https://datasheet.octopart.com:443/ERJ-3EKF1003V-Panasonic-datasheet-11542829.pdf?src-supplier=Arrow+Electronics; ComponentLink14Description: https://datasheet.octopart.com:443/ERJ-3EKF1003V-Panasonic-datasheet-11542829.pdf?src-supplier=Arrow+Electronics; ComponentLink15URL: https://datasheet.octopart.com:443/ERJ-3EKF1003V-Panasonic-datasheet-7538305.pdf?src-supplier=Jameco; ComponentLink15Description: https://datasheet.octopart.com:443/ERJ-3EKF1003V-Panasonic-datasheet-7538305.pdf?src-supplier=Jameco; ComponentLink16URL: https://datasheet.octopart.com:443/ERJ-3EKF1003V-Panasonic-datasheet-118621.pdf?src-supplier=DigiKey; ComponentLink16Description: https://datasheet.octopart.com:443/ERJ-3EKF1003V-Panasonic-datasheet-118621.pdf?src-supplier=DigiKey; ComponentLink17URL: https://datasheet.octopart.com:443/ERJ-3EKF1003V-Panasonic-datasheet-41391857.pdf?src-supplier=Electro+Sonic; ComponentLink17Description: https://datasheet.octopart.com:443/ERJ-3EKF1003V-Panasonic-datasheet-41391857.pdf?src-supplier=Electro+Sonic
footprint RESC1608X55X30NL15T15 (Manea - Resistor 100kΩ (mid) Chip Resistor, 2-Leads, Body 1.60x0.80mm, IPC Medium Density)
footprint RESC1608X55X30ML15T15 (Manea - Resistor 100kΩ (small) Chip Resistor, 2-Leads, Body 1.60x0.80mm, IPC Low Density)
footprint RESC1608X55X30LL15T15 (Manea - Resistor 100kΩ (big) Chip Resistor, 2-Leads, Body 1.60x0.80mm, IPC High Density)
pins: 1, 2

## LM1771USD/NOPB
designator IC?
LM1771 Buck Tape & Reel (TR) e3 DC to DC switching controller 400muA 6A 800mum 4.5V; Manufacturer: Texas Instruments; Manufacturer Lifecycle Status: ACTIVE; Duty Cycle: 95%; Isolation: Non-Isolated; Clock Frequency: 1MHz; Number of Channels: 1; Operating Supply Voltage: 5.5V; Quiescent Current: 400µA; Supplier: DigiKey; RoHS: Compliant; Category: Voltage Regulators - Switching; Stock: 749; Pricing: 1=2.24, 10=1.66, 25=1.5144, 100=1.3545, 250=1.27828, 500=1.23232 (USD); Height: 800µm; Lead Free: Lead Free; Length: 3mm; Lifecycle Status: Production; Max Operating Temperature: 125°C; Min Operating Temperature: -40°C; Mounting Technology: Surface Mount; Number of Outputs: 1; Pins: 6; Output Current: 6A; Output Voltage: 4.5V; Packaging: Tape & Reel (TR); Radiation Hardening: No; Switching Frequency: 1MHz; Thickness: 800µm; Topology: Buck; Width: 3mm; ComponentLink1URL: https://datasheet.octopart.com:443/LM1771USD-NOPB-Texas-Instruments-datasheet-41215755.pdf?src-supplier=Texas+Instruments; ComponentLink1Description: https://datasheet.octopart.com:443/LM1771USD-NOPB-Texas-Instruments-datasheet-41215755.pdf?src-supplier=Texas+Instruments; ComponentLink2URL: https://octopart.com:443/opatz8j6/c1?t=ytCDgPOiPT8J2RyBaM26uaWh1UQ5LY-XFZVw2N8nA6KUnQ-PMhmBrqGMJWqH-8ca0x1O2fV5w04Ne0gDh96aAaOGZH0WD5FA_WL4VE2PoATeozEZKGSPded260OKecohjtv3kgyEduRq7YjS_rQ95SkEtFOvz3-A3ws1JnRlUIviE_x2NrT4ZfpafFIWhsEKESz1i7F5XKKR1K1sh69co_USLoPSNvTJW0eb4b1qjUuPJ_u3r8CAkXIZXQ0LboJj8hO_OChsSP1dFRBYDaPdSGSm4f0Fc90ksJ3Y3W7lr8uffq6ZrebjFL9sHlVx5U6U7wOEXlK2ymiKGx1_sDuxh2BocxxFC5QWwJIySzCSok4mXlpwXUAZzb4tVlCbjjI6XS6owA&src-supplier=Texas+Instruments; ComponentLink2Description: https://octopart.com:443/opatz8j6/c1?t=ytCDgPOiPT8J2RyBaM26uaWh1UQ5LY-XFZVw2N8nA6KUnQ-PMhmBrqGMJWqH-8ca0x1O2fV5w04Ne0gDh96aAaOGZH0WD5FA_WL4VE2PoATeozEZKGSPded260OKecohjtv3kgyEduRq7YjS_rQ95SkEtFOvz3-A3ws1JnRlUIviE_x2NrT4ZfpafFIWhsEKESz1i7F5XKKR1K1sh69co_USLoPSNvTJW0eb4b1qjUuPJ_u3r8CAkXIZXQ0LboJj8hO_OChsSP1dFRBYDaPdSGSm4f0Fc90ksJ3Y3W7lr8uffq6ZrebjFL9sHlVx5U6U7wOEXlK2ymiKGx1_sDuxh2BocxxFC5QWwJIySzCSok4mXlpwXUAZzb4tVlCbjjI6XS6owA&src-supplier=Texas+Instruments; ComponentLink3URL: https://datasheet.octopart.com:443/LM1771USD-NOPB-Texas-Instruments-datasheet-14775328.pdf?src-supplier=Texas+Instruments; ComponentLink3Description: https://datasheet.octopart.com:443/LM1771USD-NOPB-Texas-Instruments-datasheet-14775328.pdf?src-supplier=Texas+Instruments; ComponentLink4URL: https://sigma.octopart.com:443/49253114/technical_drawing/Texas-Instruments-LM1771USD-NOPB.pdf?src-supplier=Texas+Instruments; ComponentLink4Description: https://sigma.octopart.com:443/49253114/technical_drawing/Texas-Instruments-LM1771USD-NOPB.pdf?src-supplier=Texas+Instruments; ComponentLink5URL: https://datasheet.octopart.com:443/LM1771USD/NOPB-Texas-Instruments-datasheet-10844163.pdf?src-supplier=Texas+Instruments; ComponentLink5Description: https://datasheet.octopart.com:443/LM1771USD/NOPB-Texas-Instruments-datasheet-10844163.pdf?src-supplier=Texas+Instruments; ComponentLink6URL: https://datasheet.octopart.com:443/LM1771USD-NOPB-Texas-Instruments-datasheet-192323267.pdf?src-supplier=HQonline; ComponentLink6Description: https://datasheet.octopart.com:443/LM1771USD-NOPB-Texas-Instruments-datasheet-192323267.pdf?src-supplier=HQonline; ComponentLink7URL: https://datasheet.octopart.com:443/LM1771USD-NOPB-Texas-Instruments-datasheet-166241198.pdf?src-supplier=Augswan; ComponentLink7Description: https://datasheet.octopart.com:443/LM1771USD-NOPB-Texas-Instruments-datasheet-166241198.pdf?src-supplier=Augswan; ComponentLink8URL: http://sigma.octopart.com:80/reach_statement/Texas-Instruments-company-64.pdf?src-supplier=Compliance+Statements; ComponentLink8Description: http://sigma.octopart.com:80/reach_statement/Texas-Instruments-company-64.pdf?src-supplier=Compliance+Statements; ComponentLink9URL: http://sigma.octopart.com:80/conflict_mineral_statement/Texas-Instruments-company-63.pdf?src-supplier=Compliance+Statements; ComponentLink9Description: http://sigma.octopart.com:80/conflict_mineral_statement/Texas-Instruments-company-63.pdf?src-supplier=Compliance+Statements; Supplier Part Number: LM1771USD/NOPBCT-ND; Manufacturer Part Number: LM1771USD/NOPB
footprint NGG0006A_V (Manea - Integrated Circuit (LM1877N) [ IC2-3 ]            SON, 6-Leads, Body 3x3 mm, Pitch 0.95mm, Full Paste, NSC Recommended)
pins: 1 FB (in), 2 GND (power), 3 HG (out), 4 LG (out), 5 IN (power), 6 EN (in), 7 DAP (power)

## LM1877N
designator IC?  (value not drawn)
LM1877 Buck Tape & Reel (TR) e3 DC to DC switching controller 400muA 6A 800mum 4.5V
footprint DIP793W47P254L1905H5334Q14 (Manea - Integrated Circuit (LM1877N) [IC2 - 3])
footprint DIP254P762X533-14 (Manea - IC LM1877N)
pins: 1 BIAS (power), 2 OUT1 (out), 3 GND, 4 GND (power), 5 GND (power), 6 IN1 (in), 7 FED (power), 8 FED (power), 9 IN2 (in), 10 GND, 11 GND, 12 GND, 13 OUT2 (out), 14 V+

## LM7812
designator IC?  (value not drawn)
1.5-A, 30-V, linear voltage regulator 3-DDPAK/TO-263 0 to 125
footprint TO254P1054X470X1955-3 (Manea - Integrated Circuit (LM7812) [ IC1 ])
pins: 1 IN (in), 2 COM, 3 OUT (out)
text: 7812

## LM7812SX/NOPB
designator IC?
1.5-A, 30-V, linear voltage regulator 3-DDPAK/TO-263 0 to 125; Manufacturer: Texas Instruments; Manufacturer Lifecycle Status: ACTIVE; Accuracy: 3%; Dropout Voltage: 2V; Max Junction Temperature (Tj): 150°C; Max Supply Voltage: 35V; Nominal Supply Current: 8mA; Number of Channels: 1; Output Current: 1.5A; Output Voltage: 12V; Supplier: DigiKey; Supplier Part Number: 296-44522-1-ND; RoHS: Compliant; Category: LDO Voltage Regulators; Stock: 8421; Pricing: 1=1.81, 10=1.331, 25=1.2108, 100=1.0789, 250=1.01592 (USD); Ambient Temperature Range High: 125°C; Case/Package: TO-263; Height: 4.83mm; Lead Free: Contains Lead; Length: 10.18mm; Lifecycle Status: Production; Max Operating Temperature: 125°C; Min Operating Temperature: 0°C; Number of Outputs: 1; Pins: 3; Quiescent Current: 8mA; Schedule B: 8542390000, 8542390000|8542390000|8542390000|8542390000|8542390000; Thickness: 4.44mm; Width: 8.41mm; ComponentLink1URL: https://octopart.com:443/opatz8j6/c1?t=KBuRsWP_d63bPRvww_Ns7qlBIOLVXKKKHaiscIkO9r9Ixks7qbPAAasgo7qDdE_PB1HIpl4rVyX8gG34q_CHOU7tz-NrHgxIvx55m5SGs0VqbJL3H3ms0jrX6YdKcYLYJ-gWUia7JHCq0ax7Uh57TbdbSt1K75g-IroQWt5QX0-ZZXgrkR2DnJTHZ1NGt7CPVk8rKgq47dCRYu3V9YOconLVDY_dymgDbgNVAQqxgvn1IBK5Z9uHP1znlt-ZTs9ej732u7cx6pHKPVSYi131XZlvu9_40i9cF4kRKCD-dpGoqBfTNoj166y7aOOefN8TfRiM6yIiUyNliRQXZRu80eLoSvRo83kqSdRY4TQenJTVHwCHiePNsaMs889k6iFoYPst&src-supplier=Texas+Instruments; ComponentLink1Description: https://octopart.com:443/opatz8j6/c1?t=KBuRsWP_d63bPRvww_Ns7qlBIOLVXKKKHaiscIkO9r9Ixks7qbPAAasgo7qDdE_PB1HIpl4rVyX8gG34q_CHOU7tz-NrHgxIvx55m5SGs0VqbJL3H3ms0jrX6YdKcYLYJ-gWUia7JHCq0ax7Uh57TbdbSt1K75g-IroQWt5QX0-ZZXgrkR2DnJTHZ1NGt7CPVk8rKgq47dCRYu3V9YOconLVDY_dymgDbgNVAQqxgvn1IBK5Z9uHP1znlt-ZTs9ej732u7cx6pHKPVSYi131XZlvu9_40i9cF4kRKCD-dpGoqBfTNoj166y7aOOefN8TfRiM6yIiUyNliRQXZRu80eLoSvRo83kqSdRY4TQenJTVHwCHiePNsaMs889k6iFoYPst&src-supplier=Texas+Instruments; ComponentLink2URL: https://sigma.octopart.com:443/49251900/technical_drawing/Texas-Instruments-LM7812SX-NOPB.pdf?src-supplier=Texas+Instruments; ComponentLink2Description: https://sigma.octopart.com:443/49251900/technical_drawing/Texas-Instruments-LM7812SX-NOPB.pdf?src-supplier=Texas+Instruments; ComponentLink3URL: https://datasheet.octopart.com:443/LM7812SX-NOPB-Texas-Instruments-datasheet-153052891.pdf?src-supplier=Upverter; ComponentLink3Description: https://datasheet.octopart.com:443/LM7812SX-NOPB-Texas-Instruments-datasheet-153052891.pdf?src-supplier=Upverter; ComponentLink4URL: https://datasheet.octopart.com:443/LM7812SX-NOPB-Texas-Instruments-datasheet-164415033.pdf?src-supplier=Augswan; ComponentLink4Description: https://datasheet.octopart.com:443/LM7812SX-NOPB-Texas-Instruments-datasheet-164415033.pdf?src-supplier=Augswan; ComponentLink5URL: http://sigma.octopart.com:80/reach_statement/Texas-Instruments-company-64.pdf?src-supplier=Compliance+Statements; ComponentLink5Description: http://sigma.octopart.com:80/reach_statement/Texas-Instruments-company-64.pdf?src-supplier=Compliance+Statements; ComponentLink6URL: http://sigma.octopart.com:80/conflict_mineral_statement/Texas-Instruments-company-63.pdf?src-supplier=Compliance+Statements; ComponentLink6Description: http://sigma.octopart.com:80/conflict_mineral_statement/Texas-Instruments-company-63.pdf?src-supplier=Compliance+Statements; Manufacturer Part Number: LM7812SX/NOPB
footprint FP-KTT0003B-MFG (Manea - Integrated Circuit (LM7812) [ IC1 ])
pins: 1 INPUT (power), 2 GND (power), 3 OUTPUT (out), 4 GND (power)